# Altium schematic symbol library HW_Dron_V2.SchLib: 51 symbols
Pins are listed as number, name and electrical type; pins without a type are passive.

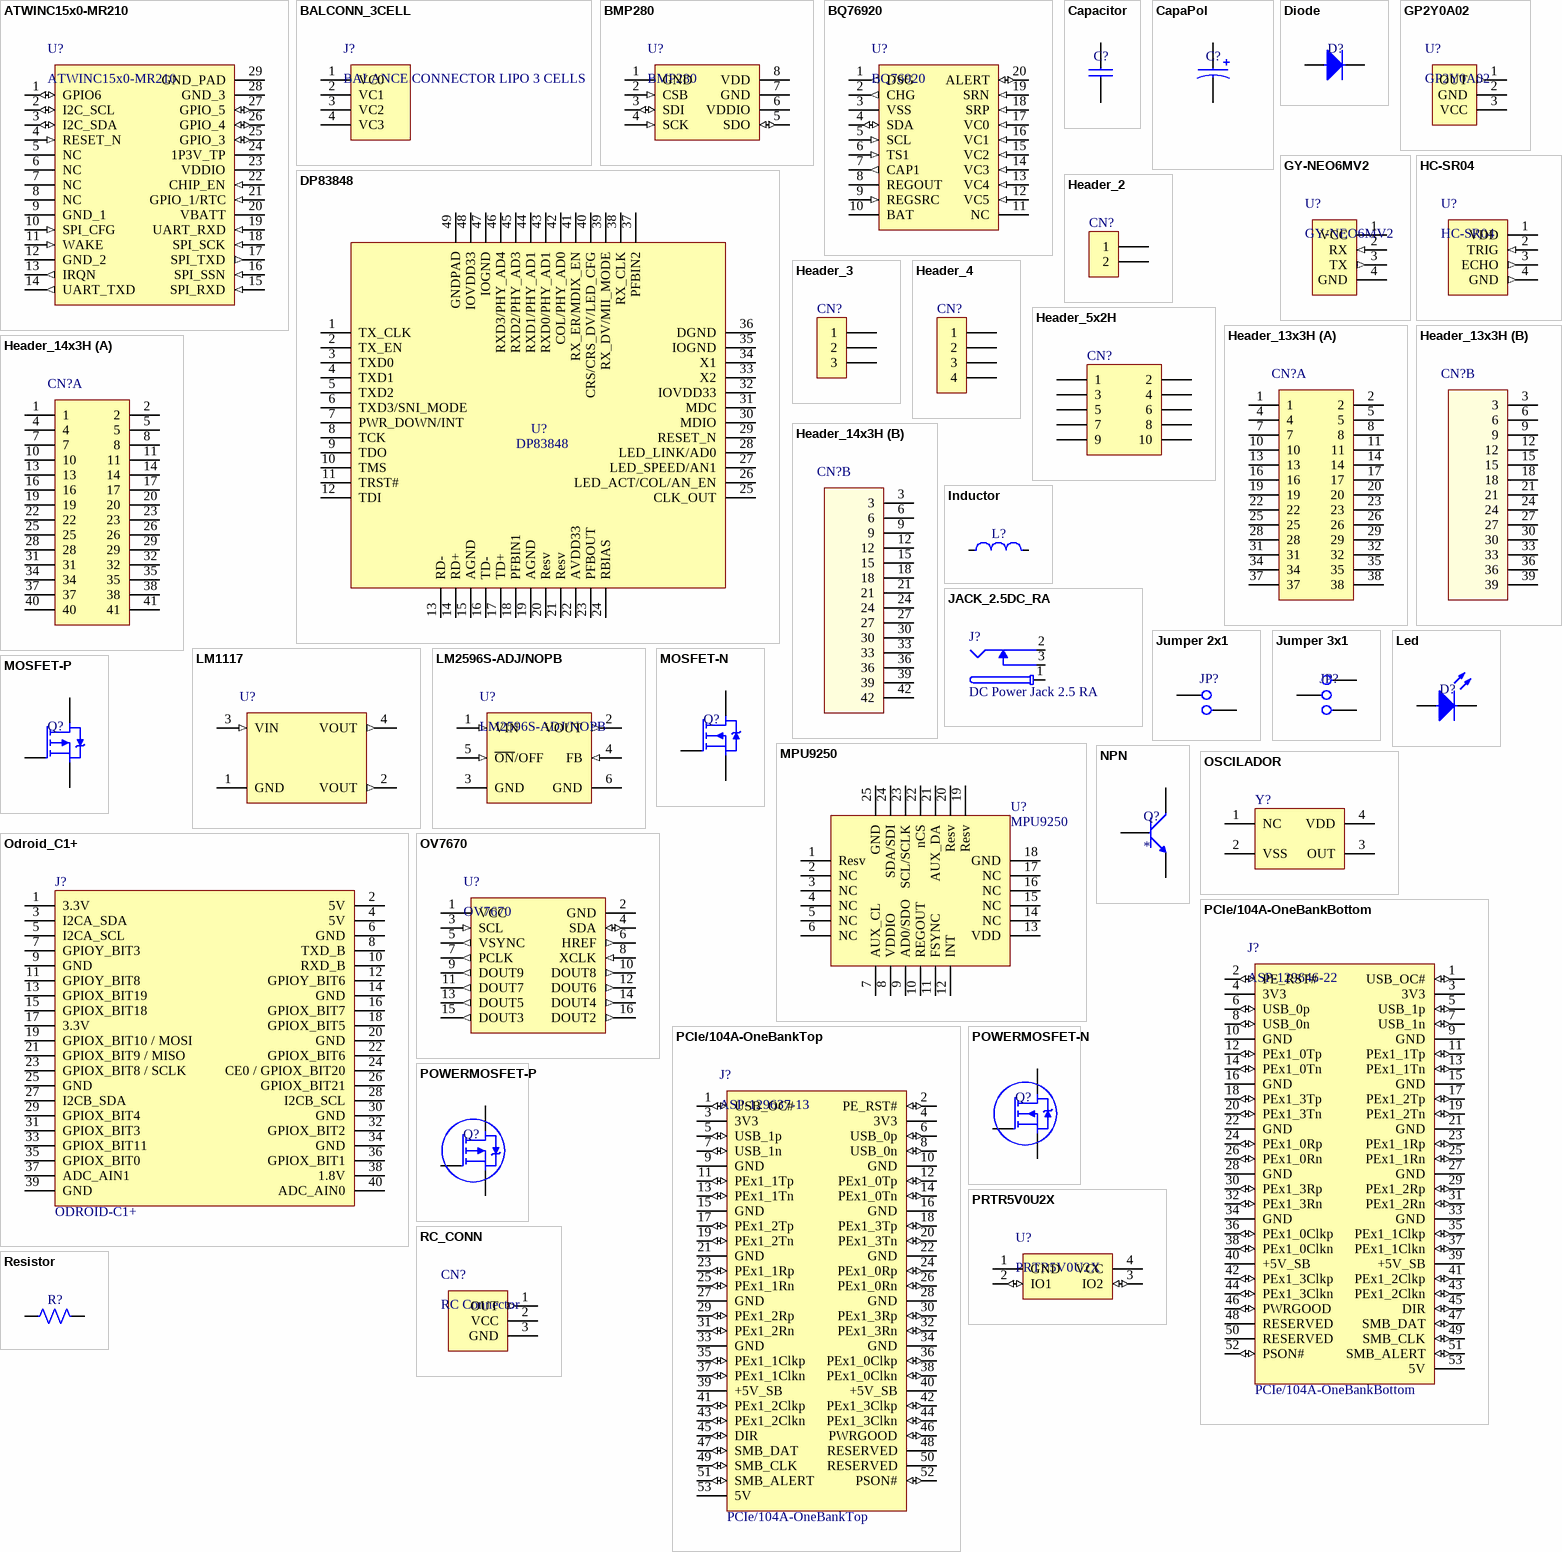
[diagram p0: symbols ATWINC15x0-MR210 to Resistor]

## ATWINC15x0-MR210
designator U?
IEEE 802.11 b/g/n SmartConnect  IoT Module
pins: 1 GPIO6 (io), 2 I2C_SCL (io), 3 I2C_SDA (io), 4 RESET_N (in), 5 NC (hiz), 6 NC (hiz), 7 NC (hiz), 8 NC (hiz), 9 GND_1 (power), 10 SPI_CFG (in), 11 WAKE (in), 12 GND_2 (power), 13 IRQN (out), 14 UART_TXD (out), 15 SPI_RXD (in), 16 SPI_SSN (in), 17 SPI_TXD (out), 18 SPI_SCK (in), 19 UART_RXD (in), 20 VBATT (power), 21 GPIO_1/RTC (in), 22 CHIP_EN (in), 23 VDDIO (power), 24 1P3V_TP (power), 25 GPIO_3 (io), 26 GPIO_4 (io), 27 GPIO_5 (io), 28 GND_3 (power), 29 GND_PAD (power)

## BALCONN_3CELL
designator J?, comment BALANCE CONNECTOR LIPO 3 CELLS
Conector balanceado de bateria LiPo de 3 celdas
pins: 1 VC0 (power), 2 VC1 (power), 3 VC2 (power), 4 VC3 (power)

## BMP280
designator U?
Sensor de presion digital
footprint BMP280 (LGA 2,0*2,5*0,95mm3)
pins: 1 GND (power), 2 CSB (in), 3 SDI (io), 4 SCK (in), 5 SDO (io), 6 VDDIO (power), 7 GND (power), 8 VDD (power)

## BQ76920
designator U?
3-Series to 5-Series Cell Battery Monitor
pins: 1 DSG (out), 2 CHG (out), 3 VSS (power), 4 SDA (io), 5 SCL (in), 6 TS1 (in), 7 CAP1 (out), 8 REGOUT (power), 9 REGSRC (in), 10 BAT (power), 11 NC (hiz), 12 VC5 (in), 13 VC4 (in), 14 VC3 (in), 15 VC2 (in), 16 VC1 (in), 17 VC0 (in), 18 SRP (in), 19 SRN (in), 20 ALERT (io)

## Capacitor
designator C?
Capacitor de placas paralelas
footprint C0603 (Capacitor SMD 0603)
footprint C1206 (Capacitor SMD 1206)
footprint C0805 (Capacitor SMD 0805)
pins: 1, 2

## CapaPol
designator C?
Capacitor polarizado
footprint Supercapa_V (Supercapacitor vertical cilindrico)
footprint VCHIP_10x10 (Electrolitico SMD 10x10)
footprint AVX_C (Capacitor AVX Case C)
footprint CS8x10,5
pins: 1, 2

## Diode
designator D?
Diodo
pins: 1, 2

## DP83848
designator U?
Modulo ethernet; Proveedor: Importador; Encapsulado: LQFP49
footprint S-PQFP-G48 (PowerPAD Plastic Quad Flatpack)
pins: 1 TX_CLK, 2 TX_EN, 3 TXD0, 4 TXD1, 5 TXD2, 6 TXD3/SNI_MODE, 7 PWR_DOWN/INT, 8 TCK, 9 TDO, 10 TMS, 11 TRST#, 12 TDI, 13 RD-, 14 RD+, 15 AGND, 16 TD-, 17 TD+, 18 PFBIN1, 19 AGND, 20 Resv, 21 Resv, 22 AVDD33, 23 PFBOUT, 24 RBIAS, 25 CLK_OUT, 26 LED_ACT/COL/AN_EN, 27 LED_SPEED/AN1, 28 LED_LINK/AD0, 29 RESET_N, 30 MDIO, 31 MDC, 32 IOVDD33, 33 X2, 34 X1, 35 IOGND, 36 DGND, 37 PFBIN2, 38 RX_CLK, 39 RX_DV/MII_MODE, 40 CRS/CRS_DV/LED_CFG, 41 RX_ER/MDIX_EN, 42 COL/PHY_AD0, 43 RXD0/PHY_AD1, 44 RXD1/PHY_AD1, 45 RXD2/PHY_AD3, 46 RXD3/PHY_AD4, 47 IOGND, 48 IOVDD33, 49 GNDPAD

## GP2Y0A02
designator U?
Conector para sensor analogico de distancia
pins: 1 OUT (out), 2 GND (power), 3 VCC (power)

## GY-NEO6MV2
designator U?
Modulo GPS NEO6 V2
footprint GY-NEO6MV2 (Modulo GPS NEO6MV2)
pins: 1 VCC (power), 2 RX (in), 3 TX (out), 4 GND (power)

## HC-SR04
designator U?
Conector para modulo ultrasonido de 40kHz
pins: 1 VDD (power), 2 TRIG (in), 3 ECHO (out), 4 GND (out)

## Header_2
designator CN?
Header, 2-pin
footprint WF2S
pins: 1, 2

## Header_3
designator CN?
Header, 3-pin
footprint JST-PH_3
pins: 1, 2, 3

## Header_4
designator CN?
Header, 4-pin
footprint WF4S
pins: 1, 2, 3, 4

## Header_5x2H
designator CN?
Header, 5x2-pin pinout horizontal
footprint IDC10M (10 pin IDC male header connector)
pins: 1, 2, 3, 4, 5, 6, 7, 8, 9, 10

## Header_13x3H
designator CN?
Header, 13x3-pin
part A pins: 1, 2, 4, 5, 7, 8, 10, 11, 13, 14, 16, 17, 19, 20, 22, 23, 25, 26, 28, 29, 31, 32, 34, 35, 37, 38
part B pins: 3, 6, 9, 12, 15, 18, 21, 24, 27, 30, 33, 36, 39

## Header_14x3H
designator CN?
Header, 14x3-pin
footprint HEADER_14x3H
part A pins: 1, 2, 4, 5, 7, 8, 10, 11, 13, 14, 16, 17, 19, 20, 22, 23, 25, 26, 28, 29, 31, 32, 34, 35, 37, 38, 40, 41
part B pins: 3, 6, 9, 12, 15, 18, 21, 24, 27, 30, 33, 36, 39, 42

## Inductor
designator L?
Inductor
footprint TOROIDE_V (Toroide vertical)
pins: 1, 2

## JACK_2.5DC_RA
designator J?, comment DC Power Jack 2.5 RA
DC Power Jack 2.5 Right Angle Type Thin Plated Black Insulator ROHS; Cod. Proveedor: MC6691355; Proveedor: Elemon; Encapsulado: TH
footprint JACK_2.5DC_RA (DC Power Jack 2.5 Right Angle)
pins: 1 GND, 2 GND, 3 GND

## Jumper 2x1
designator JP?  (value not drawn)
footprint Conn_2_1 (Conector de 2x1)
pins: 1, 2

## Jumper 3x1
designator JP?  (value not drawn)
footprint Conn_3_1 (Conector de 3x1)
pins: 1, 2, 3

## Led
designator D?
Diodo Led
footprint LED_0805 (0805 Package Chip LED)
pins: 1, 2

## LM1117
designator U?
Low dropout oscilator
footprint DPAK
pins: 1 GND (power), 2 VOUT (out), 3 VIN (in), 4 VOUT (out)

## LM2596S-ADJ/NOPB
designator U?
Switching Step-Down Voltage Regulator
footprint TSS5B (Encapsulado SMD)
pins: 1 VIN (in), 2 VOUT (out), 3 GND (power), 4 FB (in), 5 ~{ON}/OFF (in), 6 GND (power)

## MOSFET-N
designator Q?
N-Channel MOSFET
footprint SOT23
footprint DPAK (TO-252)
pins: 1 G, 2 D, 3 S

## MOSFET-P
designator Q?
P-Channel MOSFET
footprint SOT23
footprint DPAK (TO-252)
pins: 1 G, 2 D, 3 S

## MPU9250
designator U?
IMU 9DOF; Proveedor: Importador; Encapsulado: SMD
footprint MPU9250_HS (MPU9250 QFN25 (Hand Soldering))
pins: 1 Resv, 2 NC, 3 NC, 4 NC, 5 NC, 6 NC, 7 AUX_CL, 8 VDDIO, 9 AD0/SDO, 10 REGOUT, 11 FSYNC, 12 INT, 13 VDD, 14 NC, 15 NC, 16 NC, 17 NC, 18 GND, 19 Resv, 20 Resv, 21 AUX_DA, 22 nCS, 23 SCL/SCLK, 24 SDA/SDI, 25 GND

## NPN
designator Q?
Transistor bipolar de juntura NPN
footprint SOT23
pins: 1 B, 2 C, 3 E

## Odroid_C1+
designator J?, comment ODROID-C1+
Conector para odroid c1+
footprint ODROID_C1+_MOUNTUP (Para colocar ODROID C1+ mirando hacia arriba en PCB (con sujecion))
pins: 1 3.3V, 2 5V, 3 I2CA_SDA, 4 5V, 5 I2CA_SCL, 6 GND, 7 GPIOY_BIT3, 8 TXD_B, 9 GND, 10 RXD_B, 11 GPIOY_BIT8, 12 GPIOY_BIT6, 13 GPIOX_BIT19, 14 GND, 15 GPIOX_BIT18, 16 GPIOX_BIT7, 17 3.3V, 18 GPIOX_BIT5, 19 GPIOX_BIT10 / MOSI, 20 GND, 21 GPIOX_BIT9 / MISO, 22 GPIOX_BIT6, 23 GPIOX_BIT8 / SCLK, 24 CE0 / GPIOX_BIT20, 25 GND, 26 GPIOX_BIT21, 27 I2CB_SDA, 28 I2CB_SCL, 29 GPIOX_BIT4, 30 GND, 31 GPIOX_BIT3, 32 GPIOX_BIT2, 33 GPIOX_BIT11, 34 GND, 35 GPIOX_BIT0, 36 GPIOX_BIT1, 37 ADC_AIN1, 38 1.8V, 39 GND, 40 ADC_AIN0

## OSCILADOR
designator Y?
Oscilador
footprint XTAL_FP
pins: 1 NC, 2 VSS, 3 OUT, 4 VDD

## OV7670
designator U?
Modulo camara OV7670
footprint IDC16M (16 pin IDC male header connector)
pins: 1 VCC (power), 2 GND (power), 3 SCL (in), 4 SDA (io), 5 VSYNC (out), 6 HREF (out), 7 PCLK (out), 8 XCLK (in), 9 DOUT9 (out), 10 DOUT8 (out), 11 DOUT7 (out), 12 DOUT6 (out), 13 DOUT5 (out), 14 DOUT4 (out), 15 DOUT3 (out), 16 DOUT2 (out)

## PCIe/104A-OneBankBottom
designator J?, comment ASP-129646-22
PCIe/104 Connector A, OneBank Bottom; Cod. Proveedor: SAM10886-ND; Proveedor: Digikey; Encapsulado: Surface Mount; Link: https://www.digikey.com/
footprint ASP-129646-22 (PCIe/104 OneBank Bottom Connector)
pins: 1 USB_OC# (io), 2 PE_RST# (io), 3 3V3 (power), 4 3V3 (power), 5 USB_1p (io), 6 USB_0p (io), 7 USB_1n (io), 8 USB_0n (io), 9 GND (power), 10 GND (power), 11 PEx1_1Tp (io), 12 PEx1_0Tp (io), 13 PEx1_1Tn (io), 14 PEx1_0Tn (io), 15 GND (power), 16 GND (power), 17 PEx1_2Tp (io), 18 PEx1_3Tp (io), 19 PEx1_2Tn (io), 20 PEx1_3Tn (io), 21 GND (power), 22 GND (power), 23 PEx1_1Rp (io), 24 PEx1_0Rp (io), 25 PEx1_1Rn (io), 26 PEx1_0Rn (io), 27 GND (power), 28 GND (power), 29 PEx1_2Rp (io), 30 PEx1_3Rp (io), 31 PEx1_2Rn (io), 32 PEx1_3Rn (io), 33 GND (power), 34 GND (power), 35 PEx1_1Clkp (io), 36 PEx1_0Clkp (io), 37 PEx1_1Clkn (io), 38 PEx1_0Clkn (io), 39 +5V_SB (power), 40 +5V_SB (power), 41 PEx1_2Clkp (io), 42 PEx1_3Clkp (io), 43 PEx1_2Clkn (io), 44 PEx1_3Clkn (io), 45 DIR (io), 46 PWRGOOD (io), 47 SMB_DAT (io), 48 RESERVED (hiz), 49 SMB_CLK (io), 50 RESERVED (hiz), 51 SMB_ALERT (io), 52 PSON# (io), 53 5V (power)

## PCIe/104A-OneBankTop
designator J?, comment ASP-129637-13
PCIe/104 Connector A, OneBank Top; Cod. Proveedor: SAM10885-ND; Proveedor: Digikey; Encapsulado: Surface Mount; Link: https://www.digikey.com/
footprint ASP-129637-13 (PCIe/104 OneBank Top Connector)
pins: 1 USB_OC# (io), 2 PE_RST# (io), 3 3V3 (power), 4 3V3 (power), 5 USB_1p (io), 6 USB_0p (io), 7 USB_1n (io), 8 USB_0n (io), 9 GND (power), 10 GND (power), 11 PEx1_1Tp (io), 12 PEx1_0Tp (io), 13 PEx1_1Tn (io), 14 PEx1_0Tn (io), 15 GND (power), 16 GND (power), 17 PEx1_2Tp (io), 18 PEx1_3Tp (io), 19 PEx1_2Tn (io), 20 PEx1_3Tn (io), 21 GND (power), 22 GND (power), 23 PEx1_1Rp (io), 24 PEx1_0Rp (io), 25 PEx1_1Rn (io), 26 PEx1_0Rn (io), 27 GND (power), 28 GND (power), 29 PEx1_2Rp (io), 30 PEx1_3Rp (io), 31 PEx1_2Rn (io), 32 PEx1_3Rn (io), 33 GND (power), 34 GND (power), 35 PEx1_1Clkp (io), 36 PEx1_0Clkp (io), 37 PEx1_1Clkn (io), 38 PEx1_0Clkn (io), 39 +5V_SB (power), 40 +5V_SB (power), 41 PEx1_2Clkp (io), 42 PEx1_3Clkp (io), 43 PEx1_2Clkn (io), 44 PEx1_3Clkn (io), 45 DIR (io), 46 PWRGOOD (io), 47 SMB_DAT (io), 48 RESERVED (hiz), 49 SMB_CLK (io), 50 RESERVED (hiz), 51 SMB_ALERT (io), 52 PSON# (io), 53 5V (power)

## POWERMOSFET-N
designator Q?
N-Channel Power MOSFET
footprint SOT23
footprint DPAK (TO-252)
pins: 1 G, 2 D, 3 S

## POWERMOSFET-P
designator Q?
P-Channel Power MOSFET
footprint SOT23
footprint DPAK (TO-252)
pins: 1 G, 2 D, 3 S

## PRTR5V0U2X
designator U?
Ultra low capacitance double rail-to-rail ESD protection diode
footprint SOT143B
pins: 1 GND (power), 2 IO1 (io), 3 IO2 (io), 4 VCC (power)

## RC_CONN
designator CN?, comment RC Connector
Conector para entrada de radiocontrol
pins: 1 OUT (out), 2 VCC (power), 3 GND (power)

## Resistor
designator R?
Resistencia
footprint R0603 (Resistor SMD 0603)
footprint R0805 (Resistor SMD 0805)
footprint R1206 (Resistor SMD 1206)
pins: 1, 2

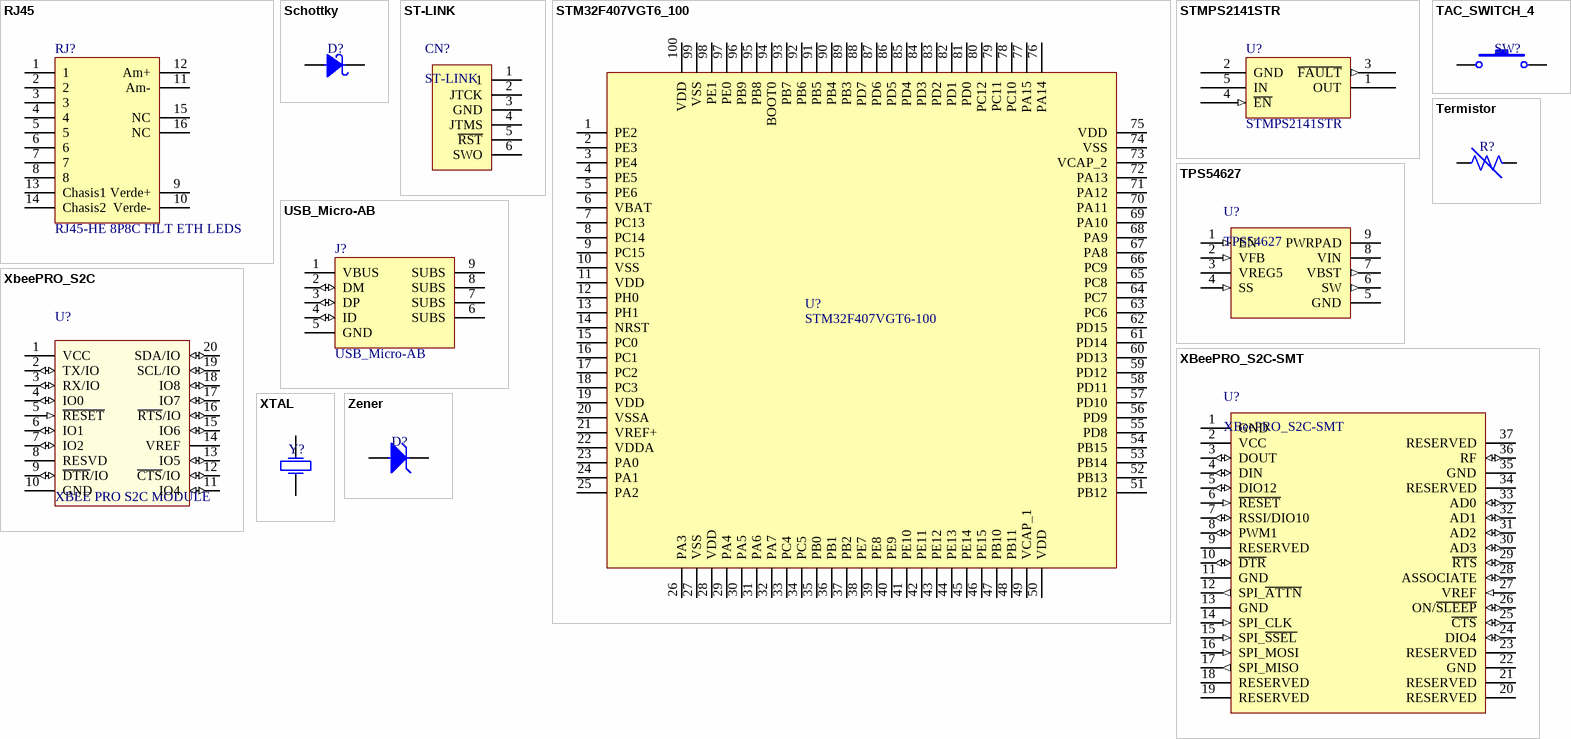
[diagram p1: symbols RJ45 to Zener]

## RJ45
designator RJ?, comment RJ45-HE 8P8C FILT ETH LEDS
RJ45 HE 8P8C FILTRO ETHERNET Y LEDS; Cod. Proveedor: CO4791004; Proveedor: Elemon; Encapsulado: RJ45_LEDS
footprint RJ45_LEDS_8P8C (RJ45 con leds (16 con los mechanical))
pins: 1, 2, 3, 4, 5, 6, 7, 8, 9 Verde+, 10 Verde-, 11 Am-, 12 Am+, 13 Chasis1, 14 Chasis2, 15 NC, 16 NC

## Schottky
designator D?
Diodo Schottky
footprint SMC (DO-214AB)
pins: 1, 2

## ST-LINK
designator CN?
STLINK
pins: 1, 2 JTCK, 3 GND, 4 JTMS, 5 ~{RST}, 6 SWO

## STM32F407VGT6_100
designator U?, comment STM32F407VGT6-100
Microcontrolador STM32F407VGT6 100 pines
footprint QFP100 (Quad Flat Pack (QFP), 0.50 mm pitch; square, 25 pin X 25 pin, 14.00 mm L X 14.00 mm W X 1.60 mm H body)
pins: 1 PE2, 2 PE3, 3 PE4, 4 PE5, 5 PE6, 6 VBAT, 7 PC13, 8 PC14, 9 PC15, 10 VSS, 11 VDD, 12 PH0, 13 PH1, 14 NRST, 15 PC0, 16 PC1, 17 PC2, 18 PC3, 19 VDD, 20 VSSA, 21 VREF+, 22 VDDA, 23 PA0, 24 PA1, 25 PA2, 26 PA3, 27 VSS, 28 VDD, 29 PA4, 30 PA5, 31 PA6, 32 PA7, 33 PC4, 34 PC5, 35 PB0, 36 PB1, 37 PB2, 38 PE7, 39 PE8, 40 PE9, 41 PE10, 42 PE11, 43 PE12, 44 PE13, 45 PE14, 46 PE15, 47 PB10, 48 PB11, 49 VCAP_1, 50 VDD, 51 PB12, 52 PB13, 53 PB14, 54 PB15, 55 PD8, 56 PD9, 57 PD10, 58 PD11, 59 PD12, 60 PD13, 61 PD14, 62 PD15, 63 PC6, 64 PC7, 65 PC8, 66 PC9, 67 PA8, 68 PA9, 69 PA10, 70 PA11, 71 PA12, 72 PA13, 73 VCAP_2, 74 VSS, 75 VDD, 76 PA14, 77 PA15, 78 PC10, 79 PC11, 80 PC12, 81 PD0, 82 PD1, 83 PD2, 84 PD3, 85 PD4, 86 PD5, 87 PD6, 88 PD7, 89 PB3, 90 PB4, 91 PB5, 92 PB6, 93 PB7, 94 BOOT0, 95 PB8, 96 PB9, 97 PE0, 98 PE1, 99 VSS, 100 VDD

## STMPS2141STR
designator U?
Enhanced single channel power switch; Proveedor: Mouser; Encapsulado: SOT23-5L; Cod. Proveedor: STMPS2141STR
footprint SOT23-5L (Encapsulado SOT23-5L SMD)
pins: 1 OUT, 2 GND, 3 ~{FAULT} (out), 4 ~{EN} (in), 5 IN

## TAC_SWITCH_4
designator SW?  (value not drawn)
Pulsador de 4 pines
footprint TAC_SW_4 (TAC SWITCH de 4)
pins: 1, 2

## Termistor
designator R?
Termistor
footprint WF2S
pins: 1, 2

## TPS54627
designator U?
4.5-V to 18-V Input, 6-A Synchronous Step-Down Converter
footprint HSOP-8
pins: 1 EN (in), 2 VFB (in), 3 VREG5, 4 SS (in), 5 GND (power), 6 SW (out), 7 VBST (out), 8 VIN (power), 9 PWRPAD (power)

## USB_Micro-AB
designator J?
Conector micro USB tipo AB
footprint USB_Micro-AB
pins: 1 VBUS (power), 2 DM (io), 3 DP (io), 4 ID (io), 5 GND (power), 6 SUBS, 7 SUBS, 8 SUBS, 9 SUBS

## XbeePRO_S2C
designator U?, comment XBEE PRO S2C MODULE
Conector modulo Zigbee Series 2 C; Encapsulado: TH
footprint XbeePRO (Modulo de comunicaciones Xbee PRO)
pins: 1 VCC (power), 2 TX/IO (io), 3 RX/IO (io), 4 IO0 (io), 5 ~{RESET} (in), 6 IO1 (io), 7 IO2 (io), 8 RESVD, 9 ~{DTR}/IO (io), 10 GND (power), 11 IO4 (io), 12 ~{CTS}/IO (io), 13 IO5 (io), 14 VREF (power), 15 IO6 (io), 16 ~{RTS}/IO (io), 17 IO7 (io), 18 IO8 (io), 19 SCL/IO (io), 20 SDA/IO (io)

## XBeePRO_S2C-SMT
designator U?
Conector modulo Zigbee Series 2 C encapsulado SMT
pins: 1 GND (power), 2 VCC (power), 3 DOUT (io), 4 DIN (io), 5 DIO12 (io), 6 ~{RESET} (in), 7 RSSI/DIO10 (io), 8 PWM1 (io), 9 RESERVED (hiz), 10 ~{DTR} (io), 11 GND (power), 12 SPI_~{ATTN} (out), 13 GND (power), 14 SPI_CLK (in), 15 SPI_~{SSEL} (in), 16 SPI_MOSI (in), 17 SPI_MISO (out), 18 RESERVED (hiz), 19 RESERVED (hiz), 20 RESERVED (hiz), 21 RESERVED (hiz), 22 GND (power), 23 RESERVED (hiz), 24 DIO4 (io), 25 ~{CTS} (io), 26 ON/~{SLEEP} (io), 27 VREF (in), 28 ASSOCIATE (io), 29 ~{RTS} (io), 30 AD3 (io), 31 AD2 (io), 32 AD1 (io), 33 AD0 (io), 34 RESERVED (hiz), 35 GND (power), 36 RF (io), 37 RESERVED (power)

## XTAL
designator Y?  (value not drawn)
Resonador cerámico
footprint XTAL_VC
footprint HC49/US_HS
pins: 1, 2

## Zener
designator D?
Diodo zener
pins: 1, 2